# EAGLE library part MC_POS-100 (library 1A-meinLib)
Voltage controlled Oscillator, 8.3dB, Mini-Circuits
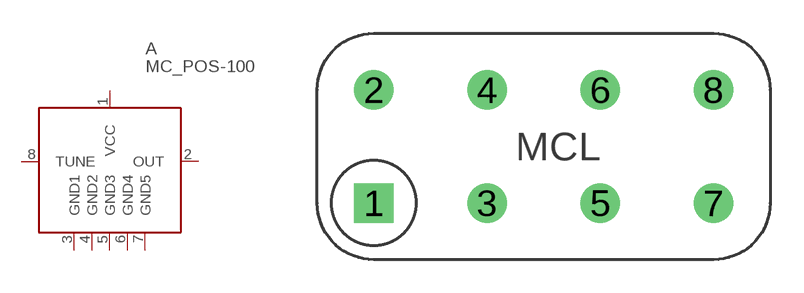
[diagram p4: symbol with the pads of MINI-CIRCUITS-A06; footprint MINI-CIRCUITS-A06]

Designator prefix A

## MC_POS-100  [MINI-CIRCUITS-A06]
1  VCC
2  OUT  out
3  GND1  pwr
4  GND2  pwr
5  GND3  pwr
6  GND4
7  GND5  pwr
8  TUNE  in

## Footprint MINI-CIRCUITS-A06 (pad centres in mm)
drill 1.1 pad 1.778 square: 1 0,-5.08
drill 1.1 pad 1.778 round: 2 0,0; 3 5.08,-5.08; 4 5.08,0; 5 10.16,-5.08; 6 10.16,0; 7 15.24,-5.08; 8 15.24,0